# Altium schematic symbol library 691 314 520 1xx.SchLib: 23 symbols
Pins are listed as number, name and electrical type; pins without a type are passive.

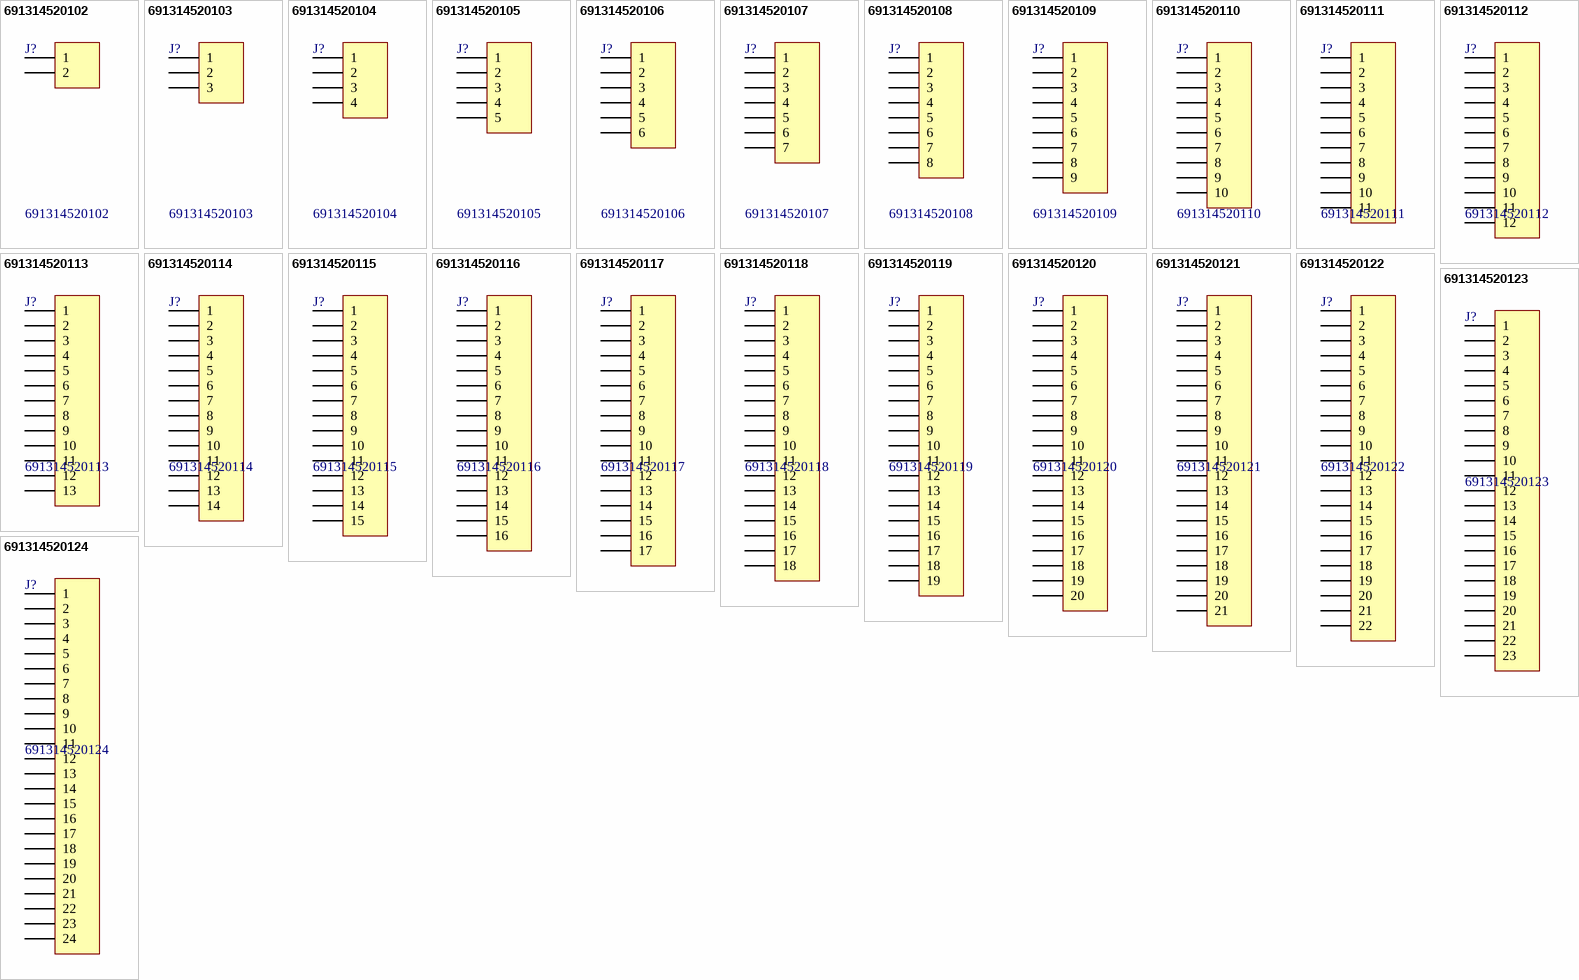
[diagram p0: symbols 691314520102 to 691314520124]

## 691314520102
designator J?
WR-TBL Terminal Blocks Serie 314 – 5.08 mm; Manufacturer: Würth Elektronik eiSos GmbH; ComponentLink1 Description: Manufacturer; ComponentLink2 Description: Datasheet; NoPins: 02; Created Date: 09 April 2014; partNo: 691314520102; ComponentLink1URL: http://www.we-online.com; ComponentLink2URL: http://katalog.we-online.de/em/datasheet/6913145201xx.pdf; Created by: Karrer Zheng; Value: 691314520102
footprint 691314520102 (5,08mm - PCB Headers - 45°- 02p)
pins: 1, 2

## 691314520103
designator J?
WR-TBL Terminal Blocks Serie 314 – 5.08 mm; Manufacturer: Würth Elektronik eiSos GmbH; ComponentLink1 Description: Manufacturer; ComponentLink2 Description: Datasheet; NoPins: 03; Created Date: 09 April 2014; partNo: 691314520103; ComponentLink1URL: http://www.we-online.com; ComponentLink2URL: http://katalog.we-online.de/em/datasheet/6913145201xx.pdf; Created by: Karrer Zheng; Value: 691314520103
footprint 691314520103 (5,08mm - PCB Headers - 45°- 03p)
pins: 1, 2, 3

## 691314520104
designator J?
WR-TBL Terminal Blocks Serie 314 – 5.08 mm; Manufacturer: Würth Elektronik eiSos GmbH; ComponentLink1 Description: Manufacturer; ComponentLink2 Description: Datasheet; NoPins: 04; Created Date: 09 April 2014; partNo: 691314520104; ComponentLink1URL: http://www.we-online.com; ComponentLink2URL: http://katalog.we-online.de/em/datasheet/6913145201xx.pdf; Created by: Karrer Zheng; Value: 691314520104
footprint 691314520104 (5,08mm - PCB Headers - 45°- 04p)
pins: 1, 2, 3, 4

## 691314520105
designator J?
WR-TBL Terminal Blocks Serie 314 – 5.08 mm; Manufacturer: Würth Elektronik eiSos GmbH; ComponentLink1 Description: Manufacturer; ComponentLink2 Description: Datasheet; NoPins: 05; Created Date: 09 April 2014; partNo: 691314520105; ComponentLink1URL: http://www.we-online.com; ComponentLink2URL: http://katalog.we-online.de/em/datasheet/6913145201xx.pdf; Created by: Karrer Zheng; Value: 691314520105
footprint 691314520105 (5,08mm - PCB Headers - 45°- 05p)
pins: 1, 2, 3, 4, 5

## 691314520106
designator J?
WR-TBL Terminal Blocks Serie 314 – 5.08 mm; Manufacturer: Würth Elektronik eiSos GmbH; ComponentLink1 Description: Manufacturer; ComponentLink2 Description: Datasheet; NoPins: 06; Created Date: 09 April 2014; partNo: 691314520106; ComponentLink1URL: http://www.we-online.com; ComponentLink2URL: http://katalog.we-online.de/em/datasheet/6913145201xx.pdf; Created by: Karrer Zheng; Value: 691314520106
footprint 691314520106 (5,08mm - PCB Headers - 45°- 06p)
pins: 1, 2, 3, 4, 5, 6

## 691314520107
designator J?
WR-TBL Terminal Blocks Serie 314 – 5.08 mm; Manufacturer: Würth Elektronik eiSos GmbH; ComponentLink1 Description: Manufacturer; ComponentLink2 Description: Datasheet; NoPins: 07; Created Date: 09 April 2014; partNo: 691314520107; ComponentLink1URL: http://www.we-online.com; ComponentLink2URL: http://katalog.we-online.de/em/datasheet/6913145201xx.pdf; Created by: Karrer Zheng; Value: 691314520107
footprint 691314520107 (5,08mm - PCB Headers - 45°- 07p)
pins: 1, 2, 3, 4, 5, 6, 7

## 691314520108
designator J?
WR-TBL Terminal Blocks Serie 314 – 5.08 mm; Manufacturer: Würth Elektronik eiSos GmbH; ComponentLink1 Description: Manufacturer; ComponentLink2 Description: Datasheet; NoPins: 08; Created Date: 09 April 2014; partNo: 691314520108; ComponentLink1URL: http://www.we-online.com; ComponentLink2URL: http://katalog.we-online.de/em/datasheet/6913145201xx.pdf; Created by: Karrer Zheng; Value: 691314520108
footprint 691314520108 (5,08mm - PCB Headers - 45°- 08p)
pins: 1, 2, 3, 4, 5, 6, 7, 8

## 691314520109
designator J?
WR-TBL Terminal Blocks Serie 314 – 5.08 mm; Manufacturer: Würth Elektronik eiSos GmbH; ComponentLink1 Description: Manufacturer; ComponentLink2 Description: Datasheet; NoPins: 09; Created Date: 09 April 2014; partNo: 691314520109; ComponentLink1URL: http://www.we-online.com; ComponentLink2URL: http://katalog.we-online.de/em/datasheet/6913145201xx.pdf; Created by: Karrer Zheng; Value: 691314520109
footprint 691314520109 (5,08mm - PCB Headers - 45°- 09p)
pins: 1, 2, 3, 4, 5, 6, 7, 8, 9

## 691314520110
designator J?
WR-TBL Terminal Blocks Serie 314 – 5.08 mm; Manufacturer: Würth Elektronik eiSos GmbH; ComponentLink1 Description: Manufacturer; ComponentLink2 Description: Datasheet; NoPins: 10; Created Date: 09 April 2014; partNo: 691314520110; ComponentLink1URL: http://www.we-online.com; ComponentLink2URL: http://katalog.we-online.de/em/datasheet/6913145201xx.pdf; Created by: Karrer Zheng; Value: 691314520110
footprint 691314520110 (5,08mm - PCB Headers - 45°- 10p)
pins: 1, 2, 3, 4, 5, 6, 7, 8, 9, 10

## 691314520111
designator J?
WR-TBL Terminal Blocks Serie 314 – 5.08 mm; Manufacturer: Würth Elektronik eiSos GmbH; ComponentLink1 Description: Manufacturer; ComponentLink2 Description: Datasheet; NoPins: 11; Created Date: 09 April 2014; partNo: 691314520111; ComponentLink1URL: http://www.we-online.com; ComponentLink2URL: http://katalog.we-online.de/em/datasheet/6913145201xx.pdf; Created by: Karrer Zheng; Value: 691314520111
footprint 691314520111 (5,08mm - PCB Headers - 45°- 11p)
pins: 1, 2, 3, 4, 5, 6, 7, 8, 9, 10, 11

## 691314520112
designator J?
WR-TBL Terminal Blocks Serie 314 – 5.08 mm; Manufacturer: Würth Elektronik eiSos GmbH; ComponentLink1 Description: Manufacturer; ComponentLink2 Description: Datasheet; NoPins: 12; Created Date: 09 April 2014; partNo: 691314520112; ComponentLink1URL: http://www.we-online.com; ComponentLink2URL: http://katalog.we-online.de/em/datasheet/6913145201xx.pdf; Created by: Karrer Zheng; Value: 691314520112
footprint 691314520112 (5,08mm - PCB Headers - 45°- 12p)
pins: 1, 2, 3, 4, 5, 6, 7, 8, 9, 10, 11, 12

## 691314520113
designator J?
WR-TBL Terminal Blocks Serie 314 – 5.08 mm; Manufacturer: Würth Elektronik eiSos GmbH; ComponentLink1 Description: Manufacturer; ComponentLink2 Description: Datasheet; NoPins: 13; Created Date: 09 April 2014; partNo: 691314520113; ComponentLink1URL: http://www.we-online.com; ComponentLink2URL: http://katalog.we-online.de/em/datasheet/6913145201xx.pdf; Created by: Karrer Zheng; Value: 691314520113
footprint 691314520113 (5,08mm - PCB Headers - 45°- 13p)
pins: 1, 2, 3, 4, 5, 6, 7, 8, 9, 10, 11, 12, 13

## 691314520114
designator J?
WR-TBL Terminal Blocks Serie 314 – 5.08 mm; Manufacturer: Würth Elektronik eiSos GmbH; ComponentLink1 Description: Manufacturer; ComponentLink2 Description: Datasheet; NoPins: 14; Created Date: 09 April 2014; partNo: 691314520114; ComponentLink1URL: http://www.we-online.com; ComponentLink2URL: http://katalog.we-online.de/em/datasheet/6913145201xx.pdf; Created by: Karrer Zheng; Value: 691314520114
footprint 691314520114 (5,08mm - PCB Headers - 45°- 14p)
pins: 1, 2, 3, 4, 5, 6, 7, 8, 9, 10, 11, 12, 13, 14

## 691314520115
designator J?
WR-TBL Terminal Blocks Serie 314 – 5.08 mm; Manufacturer: Würth Elektronik eiSos GmbH; ComponentLink1 Description: Manufacturer; ComponentLink2 Description: Datasheet; NoPins: 15; Created Date: 09 April 2014; partNo: 691314520115; ComponentLink1URL: http://www.we-online.com; ComponentLink2URL: http://katalog.we-online.de/em/datasheet/6913145201xx.pdf; Created by: Karrer Zheng; Value: 691314520115
footprint 691314520115 (5,08mm - PCB Headers - 45°- 15p)
pins: 1, 2, 3, 4, 5, 6, 7, 8, 9, 10, 11, 12, 13, 14, 15

## 691314520116
designator J?
WR-TBL Terminal Blocks Serie 314 – 5.08 mm; Manufacturer: Würth Elektronik eiSos GmbH; ComponentLink1 Description: Manufacturer; ComponentLink2 Description: Datasheet; NoPins: 16; Created Date: 09 April 2014; partNo: 691314520116; ComponentLink1URL: http://www.we-online.com; ComponentLink2URL: http://katalog.we-online.de/em/datasheet/6913145201xx.pdf; Created by: Karrer Zheng; Value: 691314520116
footprint 691314520116 (5,08mm - PCB Headers - 45°- 16p)
pins: 1, 2, 3, 4, 5, 6, 7, 8, 9, 10, 11, 12, 13, 14, 15, 16

## 691314520117
designator J?
WR-TBL Terminal Blocks Serie 314 – 5.08 mm; Manufacturer: Würth Elektronik eiSos GmbH; ComponentLink1 Description: Manufacturer; ComponentLink2 Description: Datasheet; NoPins: 17; Created Date: 09 April 2014; partNo: 691314520117; ComponentLink1URL: http://www.we-online.com; ComponentLink2URL: http://katalog.we-online.de/em/datasheet/6913145201xx.pdf; Created by: Karrer Zheng; Value: 691314520117
footprint 691314520117 (5,08mm - PCB Headers - 45°- 17p)
pins: 1, 2, 3, 4, 5, 6, 7, 8, 9, 10, 11, 12, 13, 14, 15, 16, 17

## 691314520118
designator J?
WR-TBL Terminal Blocks Serie 314 – 5.08 mm; Manufacturer: Würth Elektronik eiSos GmbH; ComponentLink1 Description: Manufacturer; ComponentLink2 Description: Datasheet; NoPins: 18; Created Date: 09 April 2014; partNo: 691314520118; ComponentLink1URL: http://www.we-online.com; ComponentLink2URL: http://katalog.we-online.de/em/datasheet/6913145201xx.pdf; Created by: Karrer Zheng; Value: 691314520118
footprint 691314520118 (5,08mm - PCB Headers - 45°- 18p)
pins: 1, 2, 3, 4, 5, 6, 7, 8, 9, 10, 11, 12, 13, 14, 15, 16, 17, 18

## 691314520119
designator J?
WR-TBL Terminal Blocks Serie 314 – 5.08 mm; Manufacturer: Würth Elektronik eiSos GmbH; ComponentLink1 Description: Manufacturer; ComponentLink2 Description: Datasheet; NoPins: 19; Created Date: 09 April 2014; partNo: 691314520119; ComponentLink1URL: http://www.we-online.com; ComponentLink2URL: http://katalog.we-online.de/em/datasheet/6913145201xx.pdf; Created by: Karrer Zheng; Value: 691314520119
footprint 691314520119 (5,08mm - PCB Headers - 45°- 19p)
pins: 1, 2, 3, 4, 5, 6, 7, 8, 9, 10, 11, 12, 13, 14, 15, 16, 17, 18, 19

## 691314520120
designator J?
WR-TBL Terminal Blocks Serie 314 – 5.08 mm; Manufacturer: Würth Elektronik eiSos GmbH; ComponentLink1 Description: Manufacturer; ComponentLink2 Description: Datasheet; NoPins: 20; Created Date: 09 April 2014; partNo: 691314520120; ComponentLink1URL: http://www.we-online.com; ComponentLink2URL: http://katalog.we-online.de/em/datasheet/6913145201xx.pdf; Created by: Karrer Zheng; Value: 691314520120
footprint 691314520120 (5,08mm - PCB Headers - 45°- 20p)
pins: 1, 2, 3, 4, 5, 6, 7, 8, 9, 10, 11, 12, 13, 14, 15, 16, 17, 18, 19, 20

## 691314520121
designator J?
WR-TBL Terminal Blocks Serie 314 – 5.08 mm; Manufacturer: Würth Elektronik eiSos GmbH; ComponentLink1 Description: Manufacturer; ComponentLink2 Description: Datasheet; NoPins: 21; Created Date: 09 April 2014; partNo: 691314520121; ComponentLink1URL: http://www.we-online.com; ComponentLink2URL: http://katalog.we-online.de/em/datasheet/6913145201xx.pdf; Created by: Karrer Zheng; Value: 691314520121
footprint 691314520121 (5,08mm - PCB Headers - 45°- 21p)
pins: 1, 2, 3, 4, 5, 6, 7, 8, 9, 10, 11, 12, 13, 14, 15, 16, 17, 18, 19, 20, 21

## 691314520122
designator J?
WR-TBL Terminal Blocks Serie 314 – 5.08 mm; Manufacturer: Würth Elektronik eiSos GmbH; ComponentLink1 Description: Manufacturer; ComponentLink2 Description: Datasheet; NoPins: 22; Created Date: 09 April 2014; partNo: 691314520122; ComponentLink1URL: http://www.we-online.com; ComponentLink2URL: http://katalog.we-online.de/em/datasheet/6913145201xx.pdf; Created by: Karrer Zheng; Value: 691314520122
footprint 691314520122 (5,08mm - PCB Headers - 45°- 22p)
pins: 1, 2, 3, 4, 5, 6, 7, 8, 9, 10, 11, 12, 13, 14, 15, 16, 17, 18, 19, 20, 21, 22

## 691314520123
designator J?
WR-TBL Terminal Blocks Serie 314 – 5.08 mm; Manufacturer: Würth Elektronik eiSos GmbH; ComponentLink1 Description: Manufacturer; ComponentLink2 Description: Datasheet; NoPins: 23; Created Date: 09 April 2014; partNo: 691314520123; ComponentLink1URL: http://www.we-online.com; ComponentLink2URL: http://katalog.we-online.de/em/datasheet/6913145201xx.pdf; Created by: Karrer Zheng; Value: 691314520123
footprint 691314520123 (5,08mm - PCB Headers - 45°- 23p)
pins: 1, 2, 3, 4, 5, 6, 7, 8, 9, 10, 11, 12, 13, 14, 15, 16, 17, 18, 19, 20, 21, 22, 23

## 691314520124
designator J?
WR-TBL Terminal Blocks Serie 314 – 5.08 mm; Manufacturer: Würth Elektronik eiSos GmbH; ComponentLink1 Description: Manufacturer; ComponentLink2 Description: Datasheet; NoPins: 24; Created Date: 09 April 2014; partNo: 691314520124; ComponentLink1URL: http://www.we-online.com; ComponentLink2URL: http://katalog.we-online.de/em/datasheet/6913145201xx.pdf; Created by: Karrer Zheng; Value: 691314520124
footprint 691314520124 (5,08mm - PCB Headers - 45°- 24p)
pins: 1, 2, 3, 4, 5, 6, 7, 8, 9, 10, 11, 12, 13, 14, 15, 16, 17, 18, 19, 20, 21, 22, 23, 24